# Altium integrated library Analog Devices Data Converters Digital-to-Analog Converters.IntLib: 2231 symbols (part 148 of 181)
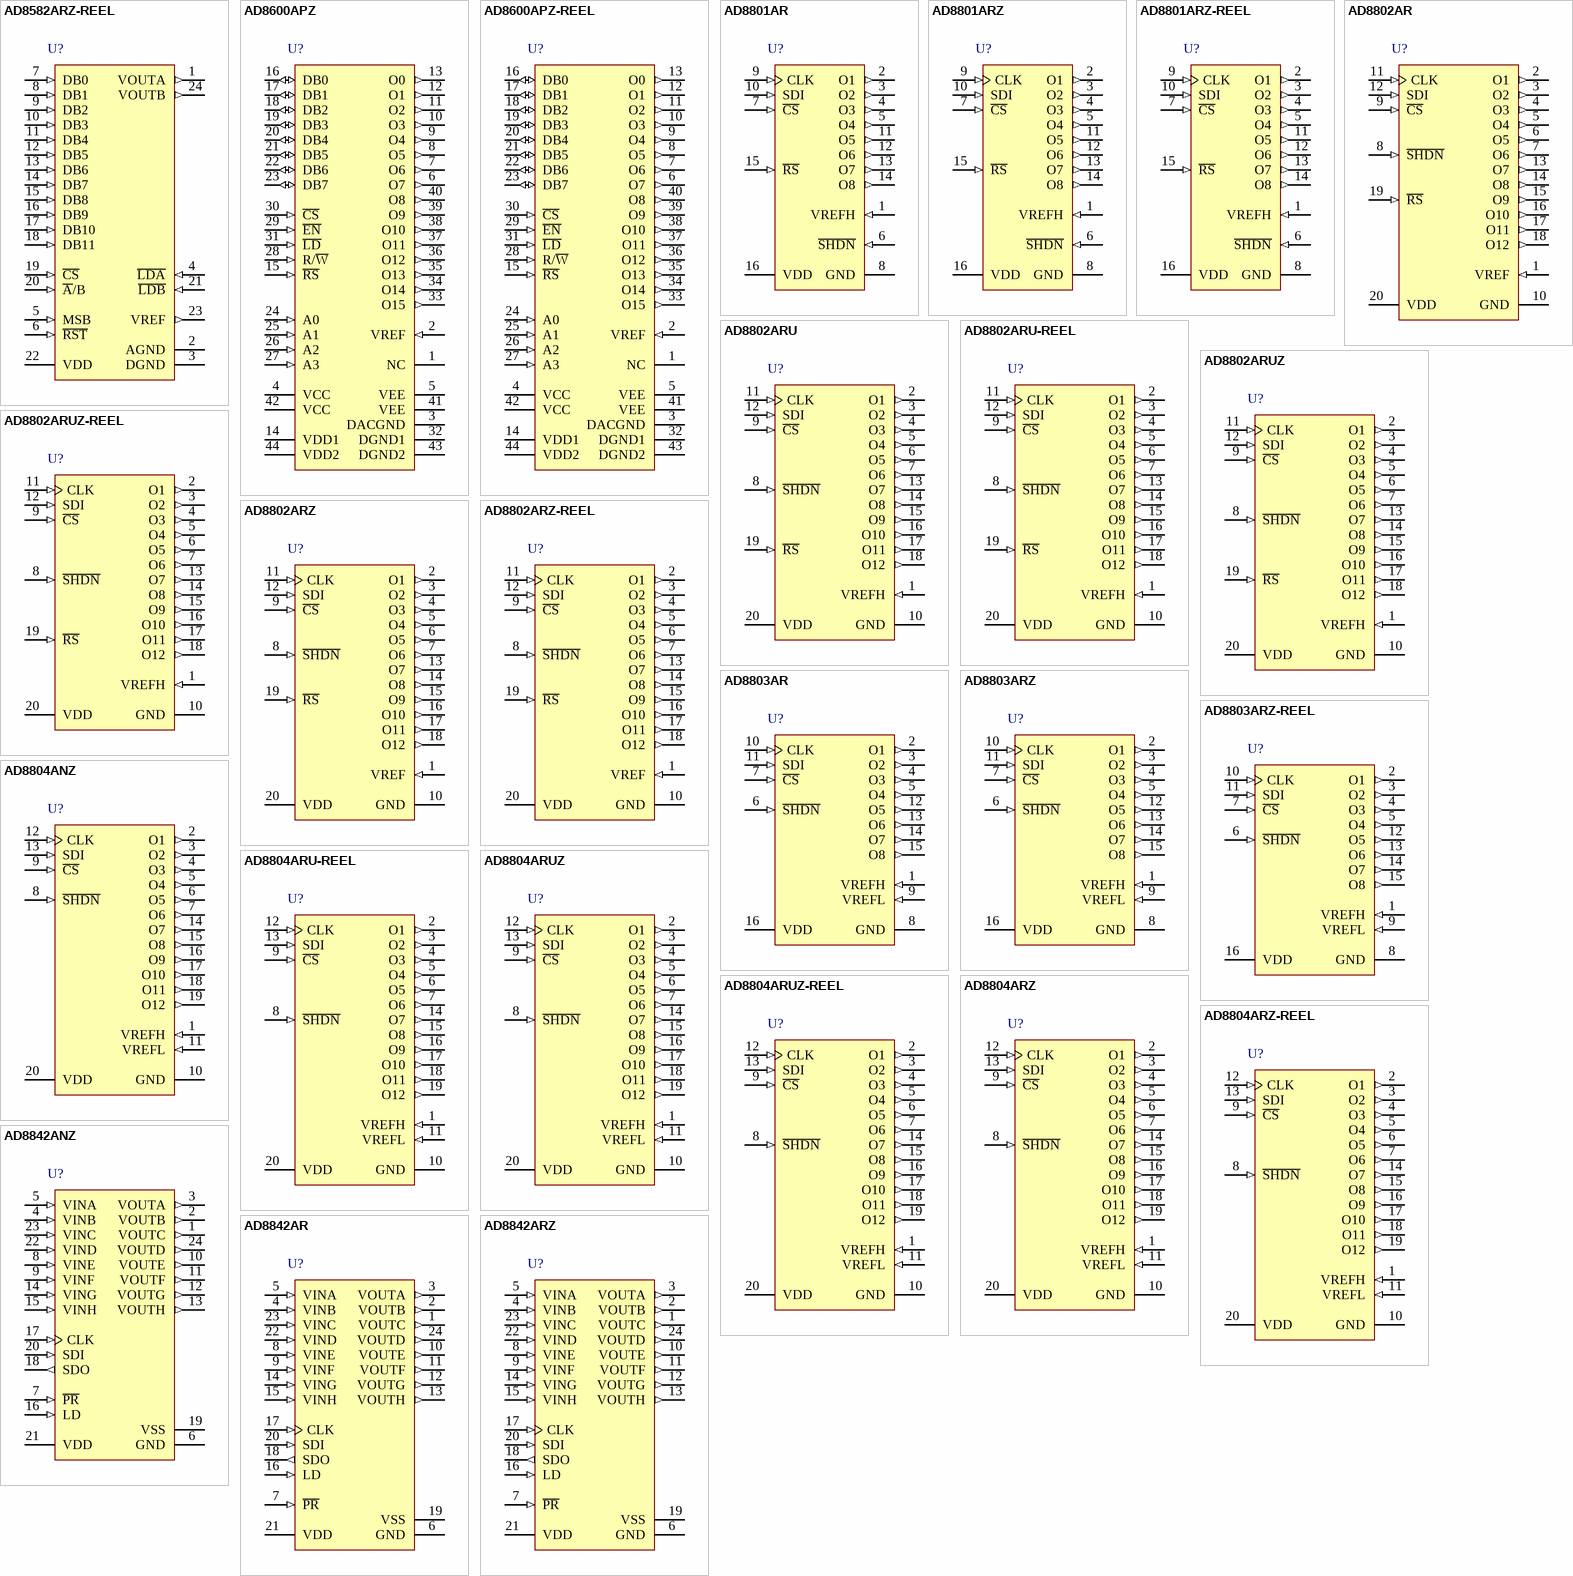
[diagram p261: symbols AD8582ARZ-REEL to AD8842ARZ]

## AD8804ARZ-REEL
designator U?
Dual 8-Bit MDAC with Power Shutdown, -40 to +85 degC, RW-20, Pb-Free, Reel; Generic Part Number: AD8804; Manufacturer: Analog Devices; PartNumber: AD8804ARZ-REEL; # DAC Outputs: 12; Max V+: 5.5V; Op Pwr Diss: 20mW; Resolution (Bits): 8; Settling Time: 600ns; Single Supply: Yes; DatasheetVersion: Rev.0; PackageVersion: 060706-A; PackageReference: RW-20; PackageDescription: 20-Lead Standard Small Outline Package [SOIC_W] Wide Body; Supplier 1: Digi-Key; Supplier Part Number 1: AD8804ARZ-REEL-ND; Supplier 2: Mouser; Supplier Part Number 2: 584-AD8804ARZ-R; Packing: Reel; RoHS: Y; Mounting Technology: Surface Mount; Code_JEDEC: MS-013-AC; ComponentLink1Description: Manufacturer URL; ComponentLink1URL: http://www.analog.com/en/index.html; ComponentLink2Description: Datasheet; ComponentLink2URL: http://www.analog.com/static/imported-files/data_sheets/AD8802_8804.pdf; ComponentLink3Description: Package Specification; ComponentLink3URL: http://www.analog.com/static/imported-files/packages/233848RW_20.pdf; ComponentLink4Description: Product URL; ComponentLink4URL: http://www.analog.com/en/digital-to-analog-converters/da-converters/ad8804/products/product.html
footprint RW-20_N (SOIC, 20-Leads, Body 12.8x7.5mm, Pitch 1.27mm, IPC Medium Density)
footprint RW-20_L (SOIC, 20-Leads, Body 12.8x7.5mm, Pitch 1.27mm, IPC High Density)
footprint RW-20_M (SOIC, 20-Leads, Body 12.8x7.5mm, Pitch 1.27mm, IPC Low Density)
pins: 1 VREFH (in) "Common High-Side DAC Reference Input", 2 O1 (out) "DAC Output #1, addr = 0000", 3 O2 (out) "DAC Output #2, addr = 0001", 4 O3 (out) "DAC Output #3, addr = 0010", 5 O4 (out) "DAC Output #4, addr = 0011", 6 O5 (out) "DAC Output #5, addr = 0100", 7 O6 (out) "DAC Output #6, addr = 0101", 8 ~{SHDN} (in) "Reference input current goes to zero. DAC latch settings maintained", 9 ~{CS} (in) "Chip Select Input, Active Low. When C\S\ returns high, data in the serial input register is decoded based on the address bits and loaded into the target DAC register", 10 GND (power) "Ground", 11 VREFL (in) "Common Low-Side DAC Reference Input", 12 CLK (in) "Serial Clock Input, Positive Edge Triggered", 13 SDI (in) "Serial Data Input", 14 O7 (out) "DAC Output #7, addr = 0110", 15 O8 (out) "DAC Output #8, addr = 0111", 16 O9 (out) "DAC Output #9, addr = 1000", 17 O10 (out) "DAC Output #10, addr = 1001", 18 O11 (out) "DAC Output #11, addr = 1010", 19 O12 (out) "DAC Output #12, addr = 1011", 20 VDD (power) "Positive Power Supply, Specified for Operation at Both +3 V and +5 V"

## AD8842ANZ
designator U?
Octal 8-Bit CMOS MDAC, -40 to +85 degC, N-24-1, Pb-Free, Tube; Generic Part Number: AD8842; Manufacturer: Analog Devices; PartNumber: AD8842ANZ; # DAC Outputs: 8; Max V+: 5.25V; Op Pwr Diss: 135mW; Settling Time: 2.9µs; Single Supply: No; DatasheetVersion: Rev.A; PackageVersion: 071006-A; PackageReference: N-24-1; PackageDescription: 24-Lead Plastic Dual In-Line Package [PDIP] Narrow Body; Supplier 1: Digi-Key; Supplier Part Number 1: AD8842ANZ-ND; Supplier 2: Newark; Supplier Part Number 2: 12M9170; Supplier 3: Mouser; Supplier Part Number 3: 584-AD8842ANZ; Packing: Tube; Resolution (Bits): 8; RoHS: Y; Mounting Technology: Through Hole; Code_JEDEC: MS-001; ComponentLink1Description: Manufacturer URL; ComponentLink1URL: http://www.analog.com/en/index.html; ComponentLink2Description: Datasheet; ComponentLink2URL: http://www.analog.com/static/imported-files/data_sheets/AD8842.pdf; ComponentLink3Description: Package Specification; ComponentLink3URL: http://www.analog.com/static/imported-files/packages/50726455539629N_24_1.pdf; ComponentLink4Description: Product URL; ComponentLink4URL: http://www.analog.com/en/digital-to-analog-converters/da-converters/ad8842/products/product.html
footprint N-24-1 (DIP, 24-Leads, Row Spacing 7.62mm, Pitch 2.54mm, Body 31.9x6.6mm)
pins: 1 VOUTC (out) "DAC C Output", 2 VOUTB (out) "DAC B Output", 3 VOUTA (out) "DAC A Output", 4 VINB (in) "DAC B Reference Input", 5 VINA (in) "DAC A Reference Input", 6 GND (power) "Ground", 7 ~{PR} (in) "Preset Input, active low, all DAC registers=80H", 8 VINE (in) "DAC E Reference Input", 9 VINF (in) "DAC F Reference Input", 10 VOUTE (out) "DAC E Output", 11 VOUTF (out) "DAC F Output", 12 VOUTG (out) "DAC G Output", 13 VOUTH (out) "DAC H Output", 14 VING (in) "DAC G Reference Input", 15 VINH (in) "DAC H Reference Input", 16 LD (in) "Load DAC Register Strobe, active-high input that transfers the data bits from the serial-input register into the decoded DAC register. SDI and CLK inputs are disabled when LD is high. See Tables I and II", 17 CLK (in) "Serial Clock Input, positive edge triggered", 18 SDO (out) "Serial Data Output, active totem pole output", 19 VSS (power) "Negative 5 V Power Supply", 20 SDI (in) "Serial Data Input", 21 VDD (power) "Positive 5 V Power Supply", 22 VIND (in) "DAC D Reference Input", 23 VINC (in) "DAC C Reference Input", 24 VOUTD (out) "DAC D Output"

## AD8842AR
designator U?
Octal 8-Bit CMOS MDAC, -40 to +85 degC, RW-24, Tube; Generic Part Number: AD8842; Manufacturer: Analog Devices; PartNumber: AD8842AR; # DAC Outputs: 8; Max V+: 5.25V; Op Pwr Diss: 135mW; Settling Time: 2.9µs; Single Supply: No; DatasheetVersion: Rev.A; PackageVersion: 060706-A; PackageReference: RW-24; PackageDescription: 24-Lead Standard Small Outline Package [SOIC_W]; Supplier 1: Digi-Key; Supplier Part Number 1: AD8842AR-ND; Supplier 2: Mouser; Supplier Part Number 2: 584-AD8842AR; Packing: Tube; Resolution (Bits): 8; RoHS: N; Mounting Technology: Surface Mount; Code_JEDEC: MS-013-AD; ComponentLink1Description: Manufacturer URL; ComponentLink1URL: http://www.analog.com/en/index.html; ComponentLink2Description: Datasheet; ComponentLink2URL: http://www.analog.com/static/imported-files/data_sheets/AD8842.pdf; ComponentLink3Description: Package Specification; ComponentLink3URL: http://www.analog.com/static/imported-files/packages/33665150946139RW_24.pdf; ComponentLink4Description: Product URL; ComponentLink4URL: http://www.analog.com/en/digital-to-analog-converters/da-converters/ad8842/products/product.html
footprint RW-24_N (SOIC, 24-Leads, Body 15.4x7.5mm, Pitch 1.27mm, IPC Medium Density)
footprint RW-24_L (SOIC, 24-Leads, Body 15.4x7.5mm, Pitch 1.27mm, IPC High Density)
footprint RW-24_M (SOIC, 24-Leads, Body 15.4x7.5mm, Pitch 1.27mm, IPC Low Density)
pins: 1 VOUTC (out) "DAC C Output", 2 VOUTB (out) "DAC B Output", 3 VOUTA (out) "DAC A Output", 4 VINB (in) "DAC B Reference Input", 5 VINA (in) "DAC A Reference Input", 6 GND (power) "Ground", 7 ~{PR} (in) "Preset Input, active low, all DAC registers=80H", 8 VINE (in) "DAC E Reference Input", 9 VINF (in) "DAC F Reference Input", 10 VOUTE (out) "DAC E Output", 11 VOUTF (out) "DAC F Output", 12 VOUTG (out) "DAC G Output", 13 VOUTH (out) "DAC H Output", 14 VING (in) "DAC G Reference Input", 15 VINH (in) "DAC H Reference Input", 16 LD (in) "Load DAC Register Strobe, active-high input that transfers the data bits from the serial-input register into the decoded DAC register. SDI and CLK inputs are disabled when LD is high. See Tables I and II", 17 CLK (in) "Serial Clock Input, positive edge triggered", 18 SDO (out) "Serial Data Output, active totem pole output", 19 VSS (power) "Negative 5 V Power Supply", 20 SDI (in) "Serial Data Input", 21 VDD (power) "Positive 5 V Power Supply", 22 VIND (in) "DAC D Reference Input", 23 VINC (in) "DAC C Reference Input", 24 VOUTD (out) "DAC D Output"

## AD8842ARZ
designator U?
Octal 8-Bit CMOS MDAC, -40 to +85 degC, RW-24, Pb-Free, Tube; Generic Part Number: AD8842; Manufacturer: Analog Devices; PartNumber: AD8842ARZ; # DAC Outputs: 8; Max V+: 5.25V; Op Pwr Diss: 135mW; Settling Time: 2.9µs; Single Supply: No; DatasheetVersion: Rev.A; PackageVersion: 060706-A; PackageReference: RW-24; PackageDescription: 24-Lead Standard Small Outline Package [SOIC_W]; Supplier 1: Digi-Key; Supplier Part Number 1: AD8842ARZ-ND; Supplier 2: Farnell; Supplier Part Number 2: 2305695; Supplier 3: Newark; Supplier Part Number 3: 59K7113; Supplier 4: Mouser; Supplier Part Number 4: 584-AD8842ARZ; Packing: Tube; Resolution (Bits): 8; RoHS: Y; Mounting Technology: Surface Mount; Code_JEDEC: MS-013-AD; ComponentLink1Description: Manufacturer URL; ComponentLink1URL: http://www.analog.com/en/index.html; ComponentLink2Description: Datasheet; ComponentLink2URL: http://www.analog.com/static/imported-files/data_sheets/AD8842.pdf; ComponentLink3Description: Package Specification; ComponentLink3URL: http://www.analog.com/static/imported-files/packages/33665150946139RW_24.pdf; ComponentLink4Description: Product URL; ComponentLink4URL: http://www.analog.com/en/digital-to-analog-converters/da-converters/ad8842/products/product.html
footprint RW-24_N (SOIC, 24-Leads, Body 15.4x7.5mm, Pitch 1.27mm, IPC Medium Density)
footprint RW-24_L (SOIC, 24-Leads, Body 15.4x7.5mm, Pitch 1.27mm, IPC High Density)
footprint RW-24_M (SOIC, 24-Leads, Body 15.4x7.5mm, Pitch 1.27mm, IPC Low Density)
pins: 1 VOUTC (out) "DAC C Output", 2 VOUTB (out) "DAC B Output", 3 VOUTA (out) "DAC A Output", 4 VINB (in) "DAC B Reference Input", 5 VINA (in) "DAC A Reference Input", 6 GND (power) "Ground", 7 ~{PR} (in) "Preset Input, active low, all DAC registers=80H", 8 VINE (in) "DAC E Reference Input", 9 VINF (in) "DAC F Reference Input", 10 VOUTE (out) "DAC E Output", 11 VOUTF (out) "DAC F Output", 12 VOUTG (out) "DAC G Output", 13 VOUTH (out) "DAC H Output", 14 VING (in) "DAC G Reference Input", 15 VINH (in) "DAC H Reference Input", 16 LD (in) "Load DAC Register Strobe, active-high input that transfers the data bits from the serial-input register into the decoded DAC register. SDI and CLK inputs are disabled when LD is high. See Tables I and II", 17 CLK (in) "Serial Clock Input, positive edge triggered", 18 SDO (out) "Serial Data Output, active totem pole output", 19 VSS (power) "Negative 5 V Power Supply", 20 SDI (in) "Serial Data Input", 21 VDD (power) "Positive 5 V Power Supply", 22 VIND (in) "DAC D Reference Input", 23 VINC (in) "DAC C Reference Input", 24 VOUTD (out) "DAC D Output"

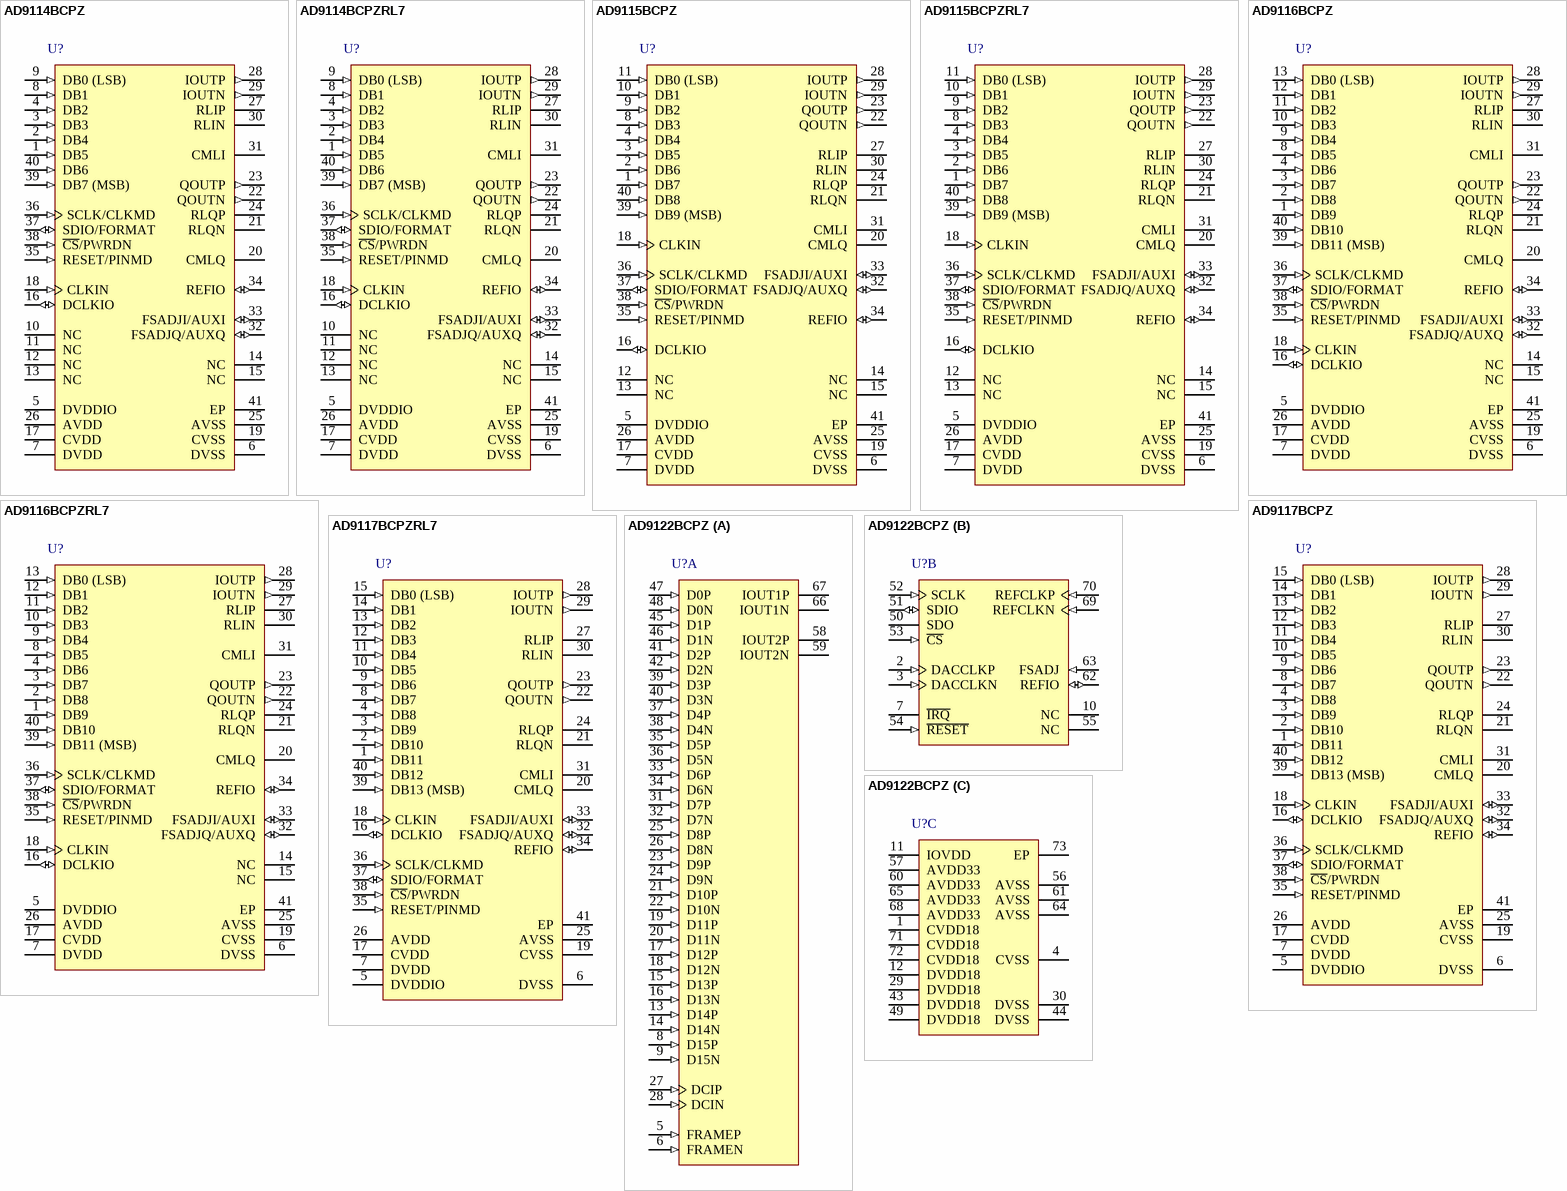
[diagram p83: symbols AD9114BCPZ to AD9122BCPZ]

## AD9114BCPZ
designator U?
Dual 8-Bit Low Power TxDAC, -40 to +85 degC, CP-40-1, Pb-Free, Tray; Generic Part Number: AD9114; Manufacturer: Analog Devices; PartNumber: AD9114BCPZ; # DAC Outputs: 2; Max V+: 3.3V; Resolution (Bits): 8; Single Supply: Yes; DatasheetVersion: Rev.B; PackageVersion: Oct-2006; PackageReference: CP-40-1; PackageDescription: 40-Pin Lead Frame Chip Scale Package [LFCSP_VQ] Very Thin Quad; Supplier 1: Digi-Key; Supplier Part Number 1: AD9114BCPZ-ND; Supplier 2: Newark; Supplier Part Number 2: 07P8988; Supplier 3: Mouser; Supplier Part Number 3: 584-AD9114BCPZ; Packing: Tray; RoHS: Y; Mounting Technology: Surface Mount; Code_JEDEC: MO-220-VJJD-2; ComponentLink1Description: Manufacturer URL; ComponentLink1URL: http://www.analog.com/en/index.html; ComponentLink2Description: Datasheet; ComponentLink2URL: http://www.analog.com/static/imported-files/data_sheets/AD9114_9115_9116_9117.pdf; ComponentLink3Description: Package Specification; ComponentLink3URL: http://www.analog.com/static/imported-files/packages/PKG_PDF/LFCSP(CP)/CP_40_1.pdf; ComponentLink4Description: Product URL; ComponentLink4URL: http://www.analog.com/en/digital-to-analog-converters/da-converters/ad9114/products/product.html
footprint CP-40-1_N (QFN, 40-Leads, Body 6x6mm, Pitch 0.5mm, Thermal Pad 4.3x4.3mm, IPC Medium Density)
footprint CP-40-1_L (QFN, 40-Leads, Body 6x6mm, Pitch 0.5mm, Thermal Pad 4.3x4.3mm, IPC High Density)
footprint CP-40-1_M (QFN, 40-Leads, Body 6x6mm, Pitch 0.5mm, Thermal Pad 4.3x4.3mm, IPC Low Density)
pins: 1 DB5 (in) "Digital Input.", 2 DB4 (in) "Digital Input.", 3 DB3 (in) "Digital Input.", 4 DB2 (in) "Digital Input.", 5 DVDDIO (power) "Digital I/O Supply Voltage Input (1.8 V to 3.3 V Nominal).", 6 DVSS (power) "Digital Common.", 7 DVDD (power) "Digital Core Supply Voltage Output (1.8 V). Strap DVDD to DVDDIO at 1.8 V. If DVDDIO > 1.8 V, bypass DVDD with a 1.0 uF capacitor; however, do not otherwise connect it. The LDO should not drive external loads.", 8 DB1 (in) "Digital Input.", 9 DB0 (LSB) (in) "Digital Input (LSB).", 10 NC "No Connect. This pin is not connected to the chip.", 11 NC "No Connect. This pin is not connected to the chip.", 12 NC "No Connect. This pin is not connected to the chip.", 13 NC "No Connect. This pin is not connected to the chip.", 14 NC "No Connect. This pin is not connected to the chip.", 15 NC "No Connect. This pin is not connected to the chip.", 16 DCLKIO (io) "Data Input/Output Clock. Clock used to qualify input data.", 17 CVDD (power) "Sampling Clock Supply Voltage Input (1.8 V to 3.3 V). CVDD must be >= DVDD.", 18 CLKIN (in) "LVCMOS Sampling Clock Input.", 19 CVSS (power) "Sampling Clock Supply Voltage Common.", 20 CMLQ "Q DAC Output Common-Mode Level. When the internal on-chip (QRCML) is enabled, this pin is connected to the on-chip QRCML resistor. It is recommended to leave this pin unconnected. When the internal on-chip (QRCML) is (See Datasheet)", 21 RLQN "Load Resistor (62.5 ohm) to the CMLQ Pin. For the internal load resistor to be used, this pin should be tied to QOUTN externally.", 22 QOUTN (out) "Complementary Q DAC Current Output. Full-scale current is sourced when all data bits are 0s.", 23 QOUTP (out) "Q DAC Current Output. Full-scale current is sourced when all data bits are 1s.", 24 RLQP "Load Resistor (62.5 ohm) to the CMLQ Pin. For the internal load resistor to be used, this pin should be tied to QOUTP externally.", 25 AVSS (power) "Analog Common.", 26 AVDD (power) "Analog Supply Voltage Input (1.8 V to 3.3 V).", 27 RLIP "Load Resistor (62.5 ohm) to the CMLI Pin. For the internal load resistor to be used, this pin should be tied to IOUTP externally.", 28 IOUTP (out) "I DAC Current Output. Full-scale current is sourced when all data bits are 1s.", 29 IOUTN (out) "Complementary I DAC Current Output. Full-scale current is sourced when all data bits are 0s.", 30 RLIN "Load Resistor (62.5 ohm) to the CMLI Pin. For the internal load resistor to be used, this pin should be tied to IOUTN externally.", 31 CMLI "I DAC Output Common-Mode Level. When the internal on-chip (IRCML) is enabled, this pin is connected to the on-chip IRCML resistor. It is recommended to leave this pin unconnected. When the internal on-chip (IRCML) is   (See Datasheet)", 32 FSADJQ/AUXQ (io) "Full-Scale Current Output Adjust (FSADJQ). When the internal on chip (QRSET) is disabled, this pin is the full-scale current output adjust for Q DAC and must be connected to AVSS through a resistor, see the Theory of (See Datasheet)", 33 FSADJI/AUXI (io) "Full-Scale Current Output Adjust (FSADJI). When the internal on-chip (IRSET) is disabled, this pin is the full-scale current output adjust for I DAC and must be connected to AVSS through a resistor, see the Theory of (See Datasheet)", 34 REFIO (io) "Reference Input/Output. Serves as a reference input when the internal reference is disabled. Provides a 1.0 V reference output when in internal reference mode (a 0.1 uF capacitor to AVSS is required).", 35 RESET/PINMD (in) "This pin defines the operation mode of the part. A logic low (pull-down to DVSS) sets the part in SPI mode.  Pulse RESET high to reset the SPI registers to their default values.A logic high (pull-up to DVDDIO) puts the (See Datasheet)", 36 SCLK/CLKMD (in) "Clock Input for Serial Port (SCLK). In SPI mode, this pin is the clock input for the serial port.Clock Mode (CLKMD). In pin mode, CLKMD determines the phase of the internal retiming clock. When DCLKIO = CLKIN, tie it to 0. (See Datasheet)", 37 SDIO/FORMAT (io) "Serial Port Input/Output (SDIO). In SPI mode, this pin is the bidirectional data line for the serial port.Format Pin (FORMAT). In pin mode, FORMAT determines the data format of digital data. A logic low (pull-down to DVSS) (See Datasheet)", 38 ~{CS}/PWRDN (in) "Active Low Chip Select (C\S\). In SPI mode, this pin serves as the active low chip select.Power-Down (PWRDN). In pin mode, a logic high (pull-up to DVDDIO) powers down the device, except for the SPI port.", 39 DB7 (MSB) (in) "Digital Input (MSB).", 40 DB6 (in) "Digital Input.", 41 EP (power) "The exposed pad is connected to AVSS and must be soldered to the ground plane. Exposed metal at the package corners is connected to this pad."

## AD9114BCPZRL7
designator U?
Dual 8-Bit Low Power TxDAC, -40 to +85 degC, CP-40-1, Pb-Free, Reel; Generic Part Number: AD9114; Manufacturer: Analog Devices; PartNumber: AD9114BCPZRL7; # DAC Outputs: 2; Max V+: 3.3V; Resolution (Bits): 8; Single Supply: Yes; DatasheetVersion: Rev.B; PackageVersion: Oct-2006; PackageReference: CP-40-1; PackageDescription: 40-Pin Lead Frame Chip Scale Package [LFCSP_VQ] Very Thin Quad; Supplier 1: Digi-Key; Supplier Part Number 1: AD9114BCPZRL7-ND; Supplier 2: Mouser; Supplier Part Number 2: 584-AD9114BCPZR7; Packing: Reel; RoHS: Y; Mounting Technology: Surface Mount; Code_JEDEC: MO-220-VJJD-2; ComponentLink1Description: Manufacturer URL; ComponentLink1URL: http://www.analog.com/en/index.html; ComponentLink2Description: Datasheet; ComponentLink2URL: http://www.analog.com/static/imported-files/data_sheets/AD9114_9115_9116_9117.pdf; ComponentLink3Description: Package Specification; ComponentLink3URL: http://www.analog.com/static/imported-files/packages/PKG_PDF/LFCSP(CP)/CP_40_1.pdf; ComponentLink4Description: Product URL; ComponentLink4URL: http://www.analog.com/en/digital-to-analog-converters/da-converters/ad9114/products/product.html
footprint CP-40-1_N (QFN, 40-Leads, Body 6x6mm, Pitch 0.5mm, Thermal Pad 4.3x4.3mm, IPC Medium Density)
footprint CP-40-1_L (QFN, 40-Leads, Body 6x6mm, Pitch 0.5mm, Thermal Pad 4.3x4.3mm, IPC High Density)
footprint CP-40-1_M (QFN, 40-Leads, Body 6x6mm, Pitch 0.5mm, Thermal Pad 4.3x4.3mm, IPC Low Density)
pins: 1 DB5 (in) "Digital Input.", 2 DB4 (in) "Digital Input.", 3 DB3 (in) "Digital Input.", 4 DB2 (in) "Digital Input.", 5 DVDDIO (power) "Digital I/O Supply Voltage Input (1.8 V to 3.3 V Nominal).", 6 DVSS (power) "Digital Common.", 7 DVDD (power) "Digital Core Supply Voltage Output (1.8 V). Strap DVDD to DVDDIO at 1.8 V. If DVDDIO > 1.8 V, bypass DVDD with a 1.0 uF capacitor; however, do not otherwise connect it. The LDO should not drive external loads.", 8 DB1 (in) "Digital Input.", 9 DB0 (LSB) (in) "Digital Input (LSB).", 10 NC "No Connect. This pin is not connected to the chip.", 11 NC "No Connect. This pin is not connected to the chip.", 12 NC "No Connect. This pin is not connected to the chip.", 13 NC "No Connect. This pin is not connected to the chip.", 14 NC "No Connect. This pin is not connected to the chip.", 15 NC "No Connect. This pin is not connected to the chip.", 16 DCLKIO (io) "Data Input/Output Clock. Clock used to qualify input data.", 17 CVDD (power) "Sampling Clock Supply Voltage Input (1.8 V to 3.3 V). CVDD must be >= DVDD.", 18 CLKIN (in) "LVCMOS Sampling Clock Input.", 19 CVSS (power) "Sampling Clock Supply Voltage Common.", 20 CMLQ "Q DAC Output Common-Mode Level. When the internal on-chip (QRCML) is enabled, this pin is connected to the on-chip QRCML resistor. It is recommended to leave this pin unconnected. When the internal on-chip (QRCML) is (See Datasheet)", 21 RLQN "Load Resistor (62.5 ohm) to the CMLQ Pin. For the internal load resistor to be used, this pin should be tied to QOUTN externally.", 22 QOUTN (out) "Complementary Q DAC Current Output. Full-scale current is sourced when all data bits are 0s.", 23 QOUTP (out) "Q DAC Current Output. Full-scale current is sourced when all data bits are 1s.", 24 RLQP "Load Resistor (62.5 ohm) to the CMLQ Pin. For the internal load resistor to be used, this pin should be tied to QOUTP externally.", 25 AVSS (power) "Analog Common.", 26 AVDD (power) "Analog Supply Voltage Input (1.8 V to 3.3 V).", 27 RLIP "Load Resistor (62.5 ohm) to the CMLI Pin. For the internal load resistor to be used, this pin should be tied to IOUTP externally.", 28 IOUTP (out) "I DAC Current Output. Full-scale current is sourced when all data bits are 1s.", 29 IOUTN (out) "Complementary I DAC Current Output. Full-scale current is sourced when all data bits are 0s.", 30 RLIN "Load Resistor (62.5 ohm) to the CMLI Pin. For the internal load resistor to be used, this pin should be tied to IOUTN externally.", 31 CMLI "I DAC Output Common-Mode Level. When the internal on-chip (IRCML) is enabled, this pin is connected to the on-chip IRCML resistor. It is recommended to leave this pin unconnected. When the internal on-chip (IRCML) is   (See Datasheet)", 32 FSADJQ/AUXQ (io) "Full-Scale Current Output Adjust (FSADJQ). When the internal on chip (QRSET) is disabled, this pin is the full-scale current output adjust for Q DAC and must be connected to AVSS through a resistor, see the Theory of (See Datasheet)", 33 FSADJI/AUXI (io) "Full-Scale Current Output Adjust (FSADJI). When the internal on-chip (IRSET) is disabled, this pin is the full-scale current output adjust for I DAC and must be connected to AVSS through a resistor, see the Theory of (See Datasheet)", 34 REFIO (io) "Reference Input/Output. Serves as a reference input when the internal reference is disabled. Provides a 1.0 V reference output when in internal reference mode (a 0.1 uF capacitor to AVSS is required).", 35 RESET/PINMD (in) "This pin defines the operation mode of the part. A logic low (pull-down to DVSS) sets the part in SPI mode.  Pulse RESET high to reset the SPI registers to their default values.A logic high (pull-up to DVDDIO) puts the (See Datasheet)", 36 SCLK/CLKMD (in) "Clock Input for Serial Port (SCLK). In SPI mode, this pin is the clock input for the serial port.Clock Mode (CLKMD). In pin mode, CLKMD determines the phase of the internal retiming clock. When DCLKIO = CLKIN, tie it to 0. (See Datasheet)", 37 SDIO/FORMAT (io) "Serial Port Input/Output (SDIO). In SPI mode, this pin is the bidirectional data line for the serial port.Format Pin (FORMAT). In pin mode, FORMAT determines the data format of digital data. A logic low (pull-down to DVSS) (See Datasheet)", 38 ~{CS}/PWRDN (in) "Active Low Chip Select (C\S\). In SPI mode, this pin serves as the active low chip select.Power-Down (PWRDN). In pin mode, a logic high (pull-up to DVDDIO) powers down the device, except for the SPI port.", 39 DB7 (MSB) (in) "Digital Input (MSB).", 40 DB6 (in) "Digital Input.", 41 EP (power) "The exposed pad is connected to AVSS and must be soldered to the ground plane. Exposed metal at the package corners is connected to this pad."

## AD9115BCPZ
designator U?
Dual 10-Bit TxDAC, 0 to +70 degC, CP-40-1, Pb-Free, Tray; Generic Part Number: AD9115; Manufacturer: Analog Devices; PartNumber: AD9115BCPZ; # DAC Outputs: 2; Max V+: 3.3V; Resolution (Bits): 10; Single Supply: Yes; DatasheetVersion: Rev.B; PackageVersion: Oct-2006; PackageReference: CP-40-1; PackageDescription: 40-Pin Lead Frame Chip Scale Package [LFCSP_VQ] Very Thin Quad; Supplier 1: Digi-Key; Supplier Part Number 1: AD9115BCPZ-ND; Supplier 2: Mouser; Supplier Part Number 2: 584-AD9115BCPZ; Packing: Tray; RoHS: Y; Mounting Technology: Surface Mount; Code_JEDEC: MO-220-VJJD-2; ComponentLink1Description: Manufacturer URL; ComponentLink1URL: http://www.analog.com/en/index.html; ComponentLink2Description: Datasheet; ComponentLink2URL: http://www.analog.com/static/imported-files/data_sheets/AD9114_9115_9116_9117.pdf; ComponentLink3Description: Package Specification; ComponentLink3URL: http://www.analog.com/static/imported-files/packages/PKG_PDF/LFCSP(CP)/CP_40_1.pdf; ComponentLink4Description: Product URL; ComponentLink4URL: http://www.analog.com/en/digital-to-analog-converters/da-converters/ad9115/products/product.html
footprint CP-40-1_N (QFN, 40-Leads, Body 6x6mm, Pitch 0.5mm, Thermal Pad 4.3x4.3mm, IPC Medium Density)
footprint CP-40-1_L (QFN, 40-Leads, Body 6x6mm, Pitch 0.5mm, Thermal Pad 4.3x4.3mm, IPC High Density)
footprint CP-40-1_M (QFN, 40-Leads, Body 6x6mm, Pitch 0.5mm, Thermal Pad 4.3x4.3mm, IPC Low Density)
pins: 1 DB7 (in) "Digital Input.", 2 DB6 (in) "Digital Input.", 3 DB5 (in) "Digital Input.", 4 DB4 (in) "Digital Input.", 5 DVDDIO (power) "Digital I/O Supply Voltage Input (1.8 V to 3.3 V Nominal).", 6 DVSS (power) "Digital Common.", 7 DVDD (power) "Digital Core Supply Voltage Output (1.8 V). Strap DVDD to DVDDIO at 1.8 V. If DVDDIO > 1.8 V, bypass DVDD with a 1.0 uF capacitor; however, do not otherwise connect it. The LDO should not drive external loads.", 8 DB3 (in) "Digital Input.", 9 DB2 (in) "Digital Input.", 10 DB1 (in) "Digital Input.", 11 DB0 (LSB) (in) "Digital Input (LSB).", 12 NC "No Connect. This pin is not connected to the chip.", 13 NC "No Connect. This pin is not connected to the chip.", 14 NC "No Connect. This pin is not connected to the chip.", 15 NC "No Connect. This pin is not connected to the chip.", 16 DCLKIO (io) "Data Input/Output Clock. Clock used to qualify input data.", 17 CVDD (power) "Sampling Clock Supply Voltage Input (1.8 V to 3.3 V). CVDD must be >= DVDD.", 18 CLKIN (in) "LVCMOS Sampling Clock Input.", 19 CVSS (power) "Sampling Clock Supply Voltage Common.", 20 CMLQ "Q DAC Output Common-Mode Level. When the internal on-chip (QRCML) is enabled, this pin is connected to the on-chip QRCML resistor. It is recommended to leave this pin unconnected. When the internal on-chip (QRCML) is (See Datasheet)", 21 RLQN "Load Resistor (62.5 ohm) to the CMLQ Pin. For the internal load resistor to be used, this pin should be tied to QOUTN externally.", 22 QOUTN (out) "Complementary Q DAC Current Output. Full-scale current is sourced when all data bits are 0s.", 23 QOUTP (out) "Q DAC Current Output. Full-scale current is sourced when all data bits are 1s.", 24 RLQP "Load Resistor (62.5 ohm) to the CMLQ Pin. For the internal load resistor to be used, this pin should be tied to QOUTP externally.", 25 AVSS (power) "Analog Common.", 26 AVDD (power) "Analog Supply Voltage Input (1.8 V to 3.3 V).", 27 RLIP "Load Resistor (62.5 ohm) to the CMLI Pin. For the internal load resistor to be used, this pin should be tied to IOUTP externally.", 28 IOUTP (out) "I DAC Current Output. Full-scale current is sourced when all data bits are 1s.", 29 IOUTN (out) "Complementary I DAC Current Output. Full-scale current is sourced when all data bits are 0s.", 30 RLIN "Load Resistor (62.5 ohm) to the CMLI Pin. For the internal load resistor to be used, this pin should be tied to IOUTN externally.", 31 CMLI "I DAC Output Common-Mode Level. When the internal on-chip (IRCML) is enabled, this pin is connected to the  on-chip IRCML resistor. It is recommended to leave this pin unconnected. When the internal on-chip (IRCML) is   (See Datasheet)", 32 FSADJQ/AUXQ (io) "Full-Scale Current Output Adjust (FSADJQ). When the internal on chip (QRSET) is disabled, this pin is the full-scale  current output adjust for Q DAC and must be connected to AVSS through a resistor, see the Theory of (See Datasheet)", 33 FSADJI/AUXI (io) "Full-Scale Current Output Adjust (FSADJI). When the internal on-chip (IRSET) is disabled, this pin is the full-scale  current output adjust for I DAC and must be connected to AVSS through a resistor, see the Theory of (See Datasheet)", 34 REFIO (io) "Reference Input/Output. Serves as a reference input when the internal reference is disabled. Provides a 1.0 V   reference output when in internal reference mode (a 0.1 uF capacitor to AVSS is required).", 35 RESET/PINMD (in) "This pin defines the operation mode of the part. A logic low (pull-down to DVSS) sets the part in SPI mode.  Pulse RESET high to reset the SPI registers to their default values.A logic high (pull-up to DVDDIO) puts the (See Datasheet)", 36 SCLK/CLKMD (in) "Clock Input for Serial Port (SCLK). In SPI mode, this pin is the clock input for the serial port.Clock Mode (CLKMD). In pin mode, CLKMD determines the phase of the internal retiming clock. When   DCLKIO = CLKIN, tie it to 0. (See Datasheet)", 37 SDIO/FORMAT (io) "Serial Port Input/Output (SDIO). In SPI mode, this pin is the bidirectional data line for the serial port.Format Pin (FORMAT). In pin mode, FORMAT determines the data format of digital data. A logic low (pull-down   to DVSS) (See Datasheet)", 38 ~{CS}/PWRDN (in) "Active Low Chip Select (C\S\). In SPI mode, this pin serves as the active low chip select.Power-Down (PWRDN). In pin mode, a logic high (pull-up to DVDDIO) powers down the device, except for the SPI port.", 39 DB9 (MSB) (in) "Digital Input (MSB).", 40 DB8 (in) "Digital Input.", 41 EP (power) "The exposed pad is connected to AVSS and must be soldered to the ground plane. Exposed metal at the   package corners is connected to this pad."

## AD9115BCPZRL7
designator U?
10-Bit TxDAC, 0 to +70 degC, CP-40-1, Pb-Free, Reel; Generic Part Number: AD9115; Manufacturer: Analog Devices; PartNumber: AD9115BCPZRL7; # DAC Outputs: 2; Max V+: 3.3V; Resolution (Bits): 10; Single Supply: Yes; DatasheetVersion: Rev.B; PackageVersion: Oct-2006; PackageReference: CP-40-1; PackageDescription: 40-Pin Lead Frame Chip Scale Package [LFCSP_VQ] Very Thin Quad; Supplier 1: Digi-Key; Supplier Part Number 1: AD9115BCPZRL7-ND; Supplier 2: Mouser; Supplier Part Number 2: 584-AD9115BCPZR7; Packing: Reel; RoHS: Y; Mounting Technology: Surface Mount; Code_JEDEC: MO-220-VJJD-2; ComponentLink1Description: Manufacturer URL; ComponentLink1URL: http://www.analog.com/en/index.html; ComponentLink2Description: Datasheet; ComponentLink2URL: http://www.analog.com/static/imported-files/data_sheets/AD9114_9115_9116_9117.pdf; ComponentLink3Description: Package Specification; ComponentLink3URL: http://www.analog.com/static/imported-files/packages/PKG_PDF/LFCSP(CP)/CP_40_1.pdf; ComponentLink4Description: Product URL; ComponentLink4URL: http://www.analog.com/en/digital-to-analog-converters/da-converters/ad9115/products/product.html
footprint CP-40-1_N (QFN, 40-Leads, Body 6x6mm, Pitch 0.5mm, Thermal Pad 4.3x4.3mm, IPC Medium Density)
footprint CP-40-1_L (QFN, 40-Leads, Body 6x6mm, Pitch 0.5mm, Thermal Pad 4.3x4.3mm, IPC High Density)
footprint CP-40-1_M (QFN, 40-Leads, Body 6x6mm, Pitch 0.5mm, Thermal Pad 4.3x4.3mm, IPC Low Density)
pins: 1 DB7 (in) "Digital Input.", 2 DB6 (in) "Digital Input.", 3 DB5 (in) "Digital Input.", 4 DB4 (in) "Digital Input.", 5 DVDDIO (power) "Digital I/O Supply Voltage Input (1.8 V to 3.3 V Nominal).", 6 DVSS (power) "Digital Common.", 7 DVDD (power) "Digital Core Supply Voltage Output (1.8 V). Strap DVDD to DVDDIO at 1.8 V. If DVDDIO > 1.8 V, bypass DVDD with a 1.0 uF capacitor; however, do not otherwise connect it. The LDO should not drive external loads.", 8 DB3 (in) "Digital Input.", 9 DB2 (in) "Digital Input.", 10 DB1 (in) "Digital Input.", 11 DB0 (LSB) (in) "Digital Input (LSB).", 12 NC "No Connect. This pin is not connected to the chip.", 13 NC "No Connect. This pin is not connected to the chip.", 14 NC "No Connect. This pin is not connected to the chip.", 15 NC "No Connect. This pin is not connected to the chip.", 16 DCLKIO (io) "Data Input/Output Clock. Clock used to qualify input data.", 17 CVDD (power) "Sampling Clock Supply Voltage Input (1.8 V to 3.3 V). CVDD must be >= DVDD.", 18 CLKIN (in) "LVCMOS Sampling Clock Input.", 19 CVSS (power) "Sampling Clock Supply Voltage Common.", 20 CMLQ "Q DAC Output Common-Mode Level. When the internal on-chip (QRCML) is enabled, this pin is connected to the on-chip QRCML resistor. It is recommended to leave this pin unconnected. When the internal on-chip (QRCML) is (See Datasheet)", 21 RLQN "Load Resistor (62.5 ohm) to the CMLQ Pin. For the internal load resistor to be used, this pin should be tied to QOUTN externally.", 22 QOUTN (out) "Complementary Q DAC Current Output. Full-scale current is sourced when all data bits are 0s.", 23 QOUTP (out) "Q DAC Current Output. Full-scale current is sourced when all data bits are 1s.", 24 RLQP "Load Resistor (62.5 ohm) to the CMLQ Pin. For the internal load resistor to be used, this pin should be tied to QOUTP externally.", 25 AVSS (power) "Analog Common.", 26 AVDD (power) "Analog Supply Voltage Input (1.8 V to 3.3 V).", 27 RLIP "Load Resistor (62.5 ohm) to the CMLI Pin. For the internal load resistor to be used, this pin should be tied to IOUTP externally.", 28 IOUTP (out) "I DAC Current Output. Full-scale current is sourced when all data bits are 1s.", 29 IOUTN (out) "Complementary I DAC Current Output. Full-scale current is sourced when all data bits are 0s.", 30 RLIN "Load Resistor (62.5 ohm) to the CMLI Pin. For the internal load resistor to be used, this pin should be tied to IOUTN externally.", 31 CMLI "I DAC Output Common-Mode Level. When the internal on-chip (IRCML) is enabled, this pin is connected to the  on-chip IRCML resistor. It is recommended to leave this pin unconnected. When the internal on-chip (IRCML) is   (See Datasheet)", 32 FSADJQ/AUXQ (io) "Full-Scale Current Output Adjust (FSADJQ). When the internal on chip (QRSET) is disabled, this pin is the full-scale  current output adjust for Q DAC and must be connected to AVSS through a resistor, see the Theory of (See Datasheet)", 33 FSADJI/AUXI (io) "Full-Scale Current Output Adjust (FSADJI). When the internal on-chip (IRSET) is disabled, this pin is the full-scale  current output adjust for I DAC and must be connected to AVSS through a resistor, see the Theory of (See Datasheet)", 34 REFIO (io) "Reference Input/Output. Serves as a reference input when the internal reference is disabled. Provides a 1.0 V   reference output when in internal reference mode (a 0.1 uF capacitor to AVSS is required).", 35 RESET/PINMD (in) "This pin defines the operation mode of the part. A logic low (pull-down to DVSS) sets the part in SPI mode.  Pulse RESET high to reset the SPI registers to their default values.A logic high (pull-up to DVDDIO) puts the (See Datasheet)", 36 SCLK/CLKMD (in) "Clock Input for Serial Port (SCLK). In SPI mode, this pin is the clock input for the serial port.Clock Mode (CLKMD). In pin mode, CLKMD determines the phase of the internal retiming clock. When   DCLKIO = CLKIN, tie it to 0. (See Datasheet)", 37 SDIO/FORMAT (io) "Serial Port Input/Output (SDIO). In SPI mode, this pin is the bidirectional data line for the serial port.Format Pin (FORMAT). In pin mode, FORMAT determines the data format of digital data. A logic low (pull-down   to DVSS) (See Datasheet)", 38 ~{CS}/PWRDN (in) "Active Low Chip Select (C\S\). In SPI mode, this pin serves as the active low chip select.Power-Down (PWRDN). In pin mode, a logic high (pull-up to DVDDIO) powers down the device, except for the SPI port.", 39 DB9 (MSB) (in) "Digital Input (MSB).", 40 DB8 (in) "Digital Input.", 41 EP (power) "The exposed pad is connected to AVSS and must be soldered to the ground plane. Exposed metal at the   package corners is connected to this pad."

## AD9116BCPZ
designator U?
Dual 12-Bit TxDAC, 0 to +70 degC, CP-40-1, Pb-Free, Tray; Generic Part Number: AD9116; Manufacturer: Analog Devices; PartNumber: AD9116BCPZ; # DAC Outputs: 2; Max V+: 3.3V; Resolution (Bits): 12; Single Supply: Yes; DatasheetVersion: Rev.B; PackageVersion: Oct-2006; PackageReference: CP-40-1; PackageDescription: 40-Pin Lead Frame Chip Scale Package [LFCSP_VQ] Very Thin Quad; Supplier 1: Digi-Key; Supplier Part Number 1: AD9116BCPZ-ND; Supplier 2: Newark; Supplier Part Number 2: 07P8994; Supplier 3: Mouser; Supplier Part Number 3: 584-AD9116BCPZ; Packing: Tray; RoHS: Y; Mounting Technology: Surface Mount; Code_JEDEC: MO-220-VJJD-2; ComponentLink1Description: Manufacturer URL; ComponentLink1URL: http://www.analog.com/en/index.html; ComponentLink2Description: Datasheet; ComponentLink2URL: http://www.analog.com/static/imported-files/data_sheets/AD9114_9115_9116_9117.pdf; ComponentLink3Description: Package Specification; ComponentLink3URL: http://www.analog.com/static/imported-files/packages/PKG_PDF/LFCSP(CP)/CP_40_1.pdf; ComponentLink4Description: Product URL; ComponentLink4URL: http://www.analog.com/en/digital-to-analog-converters/da-converters/ad9116/products/product.html
footprint CP-40-1_N (QFN, 40-Leads, Body 6x6mm, Pitch 0.5mm, Thermal Pad 4.3x4.3mm, IPC Medium Density)
footprint CP-40-1_L (QFN, 40-Leads, Body 6x6mm, Pitch 0.5mm, Thermal Pad 4.3x4.3mm, IPC High Density)
footprint CP-40-1_M (QFN, 40-Leads, Body 6x6mm, Pitch 0.5mm, Thermal Pad 4.3x4.3mm, IPC Low Density)
pins: 1 DB9 (in) "Digital Input.", 2 DB8 (in) "Digital Input.", 3 DB7 (in) "Digital Input.", 4 DB6 (in) "Digital Input.", 5 DVDDIO (power) "Digital I/O Supply Voltage Input (1.8 V to 3.3 V Nominal).", 6 DVSS (power) "Digital Common.", 7 DVDD (power) "Digital Core Supply Voltage Output (1.8 V). Strap DVDD to DVDDIO at 1.8 V. If DVDDIO > 1.8 V, bypass DVDD with a 1.0 uF capacitor; however, do not otherwise connect it. The LDO should not drive external loads.", 8 DB5 (in) "Digital Input.", 9 DB4 (in) "Digital Input.", 10 DB3 (in) "Digital Input.", 11 DB2 (in) "Digital Input.", 12 DB1 (in) "Digital Input.", 13 DB0 (LSB) (in) "Digital Input (LSB).", 14 NC "No Connect. These pins are not connected to the chip.", 15 NC "No Connect. These pins are not connected to the chip.", 16 DCLKIO (io) "Data Input/Output Clock. Clock used to qualify input data.", 17 CVDD (power) "Sampling Clock Supply Voltage Input (1.8 V to 3.3 V). CVDD must be >= DVDD.", 18 CLKIN (in) "LVCMOS Sampling Clock Input.", 19 CVSS (power) "Sampling Clock Supply Voltage Common.", 20 CMLQ "Q DAC Output Common-Mode Level. When the internal on-chip (QRCML) is enabled, this pin is connected to the on-chip QRCML resistor. It is recommended to leave this pin unconnected. When the internal on-chip (QRCML) is (See Datasheet)", 21 RLQN "Load Resistor (62.5 ohm) to the CMLQ Pin. For the internal load resistor to be used, this pin should be tied to QOUTN externally.", 22 QOUTN (out) "Complementary Q DAC Current Output. Full-scale current is sourced when all data bits are 0s.", 23 QOUTP (out) "Q DAC Current Output. Full-scale current is sourced when all data bits are 1s.", 24 RLQP "Load Resistor (62.5 ohm) to the CMLQ Pin. For the internal load resistor to be used, this pin should be tied to QOUTP externally.", 25 AVSS (power) "Analog Common.", 26 AVDD (power) "Analog Supply Voltage Input (1.8 V to 3.3 V).", 27 RLIP "Load Resistor (62.5 ohm) to the CMLI Pin. For the internal load resistor to be used, this pin should be tied to IOUTP externally.", 28 IOUTP (out) "I DAC Current Output. Full-scale current is sourced when all data bits are 1s.", 29 IOUTN (out) "Complementary I DAC Current Output. Full-scale current is sourced when all data bits are 0s.", 30 RLIN "Load Resistor (62.5 ohm) to the CMLI Pin. For the internal load resistor to be used, this pin should be tied to IOUTN externally.", 31 CMLI "I DAC Output Common-Mode Level. When the internal on-chip (IRCML) is enabled, this pin is connected to the on-chip IRCML resistor. It is recommended to leave this pin unconnected. When the internal on-chip (IRCML) is (See Datasheet)", 32 FSADJQ/AUXQ (io) "Full-Scale Current Output Adjust (FSADJQ). When the internal on chip (QRSET) is disabled, this pin is the full- scale current output adjust for Q DAC and must be connected to AVSS through a resistor, see the Theory of (See Datasheet)", 33 FSADJI/AUXI (io) "Full-Scale Current Output Adjust (FSADJI). When the internal on-chip (IRSET) is disabled, this pin is the full-scale current output adjust for I DAC and must be connected to AVSS through a resistor, see the Theory of (See Datasheet)", 34 REFIO (io) "Reference Input/Output. Serves as a reference input when the internal reference is disabled. Provides a 1.0 V reference output when in internal reference mode (a 0.1 uF capacitor to AVSS is required).", 35 RESET/PINMD (in) "This pin defines the operation mode of the part. A logic low (pull-down to DVSS) sets the part in SPI mode. Pulse RESET high to reset the SPI registers to their default values.", 36 SCLK/CLKMD (in) "Clock Input for Serial Port (SCLK). In SPI mode, this pin is the clock input for the serial port. Clock Mode (CLKMD). In pin mode, CLKMD determines the phase of the internal retiming clock. When DCLKIO = CLKIN, tie it to 0. (See Datasheet)", 37 SDIO/FORMAT (io) "Serial Port Input/Output (SDIO). In SPI mode, this pin is the bidirectional data line for the serial port. Format Pin (FORMAT). In pin mode, FORMAT determines the data format of digital data. A logic low (pull-down to DVSS) (See Datasheet)", 38 ~{CS}/PWRDN (in) "Active Low Chip Select (C\S\). In SPI mode, this pin serves as the active low chip select. Power-Down (PWRDN). In pin mode, a logic high (pull-up to DVDDIO) powers down the device, except for the SPI port.", 39 DB11 (MSB) (in) "Digital Input (MSB).", 40 DB10 (in) "Digital Input.", 41 EP (power) "The exposed pad is connected to AVSS and must be soldered to the ground plane. Exposed metal at the package corners is connected to this pad."

## AD9116BCPZRL7
designator U?
Dual 12-Bit TxDAC, 0 to +70 degC, CP-40-1, Pb-Free, Reel; Generic Part Number: AD9116; Manufacturer: Analog Devices; PartNumber: AD9116BCPZRL7; # DAC Outputs: 2; Max V+: 3.3V; Resolution (Bits): 12; Single Supply: Yes; DatasheetVersion: Rev.B; PackageVersion: Oct-2006; PackageReference: CP-40-1; PackageDescription: 40-Pin Lead Frame Chip Scale Package [LFCSP_VQ] Very Thin Quad; Supplier 1: Digi-Key; Supplier Part Number 1: AD9116BCPZRL7-ND; Supplier 2: Newark; Supplier Part Number 2: 07P8995; Supplier 3: Mouser; Supplier Part Number 3: 584-AD9116BCPZR7; Packing: Reel; RoHS: Y; Mounting Technology: Surface Mount; Code_JEDEC: MO-220-VJJD-2; ComponentLink1Description: Manufacturer URL; ComponentLink1URL: http://www.analog.com/en/index.html; ComponentLink2Description: Datasheet; ComponentLink2URL: http://www.analog.com/static/imported-files/data_sheets/AD9114_9115_9116_9117.pdf; ComponentLink3Description: Package Specification; ComponentLink3URL: http://www.analog.com/static/imported-files/packages/PKG_PDF/LFCSP(CP)/CP_40_1.pdf; ComponentLink4Description: Product URL; ComponentLink4URL: http://www.analog.com/en/digital-to-analog-converters/da-converters/ad9116/products/product.html
footprint CP-40-1_N (QFN, 40-Leads, Body 6x6mm, Pitch 0.5mm, Thermal Pad 4.3x4.3mm, IPC Medium Density)
footprint CP-40-1_L (QFN, 40-Leads, Body 6x6mm, Pitch 0.5mm, Thermal Pad 4.3x4.3mm, IPC High Density)
footprint CP-40-1_M (QFN, 40-Leads, Body 6x6mm, Pitch 0.5mm, Thermal Pad 4.3x4.3mm, IPC Low Density)
pins: 1 DB9 (in) "Digital Input.", 2 DB8 (in) "Digital Input.", 3 DB7 (in) "Digital Input.", 4 DB6 (in) "Digital Input.", 5 DVDDIO (power) "Digital I/O Supply Voltage Input (1.8 V to 3.3 V Nominal).", 6 DVSS (power) "Digital Common.", 7 DVDD (power) "Digital Core Supply Voltage Output (1.8 V). Strap DVDD to DVDDIO at 1.8 V. If DVDDIO > 1.8 V, bypass DVDD with a 1.0 uF capacitor; however, do not otherwise connect it. The LDO should not drive external loads.", 8 DB5 (in) "Digital Input.", 9 DB4 (in) "Digital Input.", 10 DB3 (in) "Digital Input.", 11 DB2 (in) "Digital Input.", 12 DB1 (in) "Digital Input.", 13 DB0 (LSB) (in) "Digital Input (LSB).", 14 NC "No Connect. These pins are not connected to the chip.", 15 NC "No Connect. These pins are not connected to the chip.", 16 DCLKIO (io) "Data Input/Output Clock. Clock used to qualify input data.", 17 CVDD (power) "Sampling Clock Supply Voltage Input (1.8 V to 3.3 V). CVDD must be >= DVDD.", 18 CLKIN (in) "LVCMOS Sampling Clock Input.", 19 CVSS (power) "Sampling Clock Supply Voltage Common.", 20 CMLQ "Q DAC Output Common-Mode Level. When the internal on-chip (QRCML) is enabled, this pin is connected to the on-chip QRCML resistor. It is recommended to leave this pin unconnected. When the internal on-chip (QRCML) is (See Datasheet)", 21 RLQN "Load Resistor (62.5 ohm) to the CMLQ Pin. For the internal load resistor to be used, this pin should be tied to QOUTN externally.", 22 QOUTN (out) "Complementary Q DAC Current Output. Full-scale current is sourced when all data bits are 0s.", 23 QOUTP (out) "Q DAC Current Output. Full-scale current is sourced when all data bits are 1s.", 24 RLQP "Load Resistor (62.5 ohm) to the CMLQ Pin. For the internal load resistor to be used, this pin should be tied to QOUTP externally.", 25 AVSS (power) "Analog Common.", 26 AVDD (power) "Analog Supply Voltage Input (1.8 V to 3.3 V).", 27 RLIP "Load Resistor (62.5 ohm) to the CMLI Pin. For the internal load resistor to be used, this pin should be tied to IOUTP externally.", 28 IOUTP (out) "I DAC Current Output. Full-scale current is sourced when all data bits are 1s.", 29 IOUTN (out) "Complementary I DAC Current Output. Full-scale current is sourced when all data bits are 0s.", 30 RLIN "Load Resistor (62.5 ohm) to the CMLI Pin. For the internal load resistor to be used, this pin should be tied to IOUTN externally.", 31 CMLI "I DAC Output Common-Mode Level. When the internal on-chip (IRCML) is enabled, this pin is connected to the on-chip IRCML resistor. It is recommended to leave this pin unconnected. When the internal on-chip (IRCML) is (See Datasheet)", 32 FSADJQ/AUXQ (io) "Full-Scale Current Output Adjust (FSADJQ). When the internal on chip (QRSET) is disabled, this pin is the full- scale current output adjust for Q DAC and must be connected to AVSS through a resistor, see the Theory of (See Datasheet)", 33 FSADJI/AUXI (io) "Full-Scale Current Output Adjust (FSADJI). When the internal on-chip (IRSET) is disabled, this pin is the full-scale current output adjust for I DAC and must be connected to AVSS through a resistor, see the Theory of (See Datasheet)", 34 REFIO (io) "Reference Input/Output. Serves as a reference input when the internal reference is disabled. Provides a 1.0 V reference output when in internal reference mode (a 0.1 uF capacitor to AVSS is required).", 35 RESET/PINMD (in) "This pin defines the operation mode of the part. A logic low (pull-down to DVSS) sets the part in SPI mode. Pulse RESET high to reset the SPI registers to their default values.", 36 SCLK/CLKMD (in) "Clock Input for Serial Port (SCLK). In SPI mode, this pin is the clock input for the serial port. Clock Mode (CLKMD). In pin mode, CLKMD determines the phase of the internal retiming clock. When DCLKIO = CLKIN, tie it to 0. (See Datasheet)", 37 SDIO/FORMAT (io) "Serial Port Input/Output (SDIO). In SPI mode, this pin is the bidirectional data line for the serial port. Format Pin (FORMAT). In pin mode, FORMAT determines the data format of digital data. A logic low (pull-down to DVSS) (See Datasheet)", 38 ~{CS}/PWRDN (in) "Active Low Chip Select (C\S\). In SPI mode, this pin serves as the active low chip select. Power-Down (PWRDN). In pin mode, a logic high (pull-up to DVDDIO) powers down the device, except for the SPI port.", 39 DB11 (MSB) (in) "Digital Input (MSB).", 40 DB10 (in) "Digital Input.", 41 EP (power) "The exposed pad is connected to AVSS and must be soldered to the ground plane. Exposed metal at the package corners is connected to this pad."